# EAGLE library part LTC3569 (library PowerProducts)
LT-Spice library generated with : ltspice.ulp from: D:/Program Files (x86)/LTC/LTspiceIV/lib/sym/PowerProducts/LTC3588-1*.asy at 07.10.2012 18:20:25
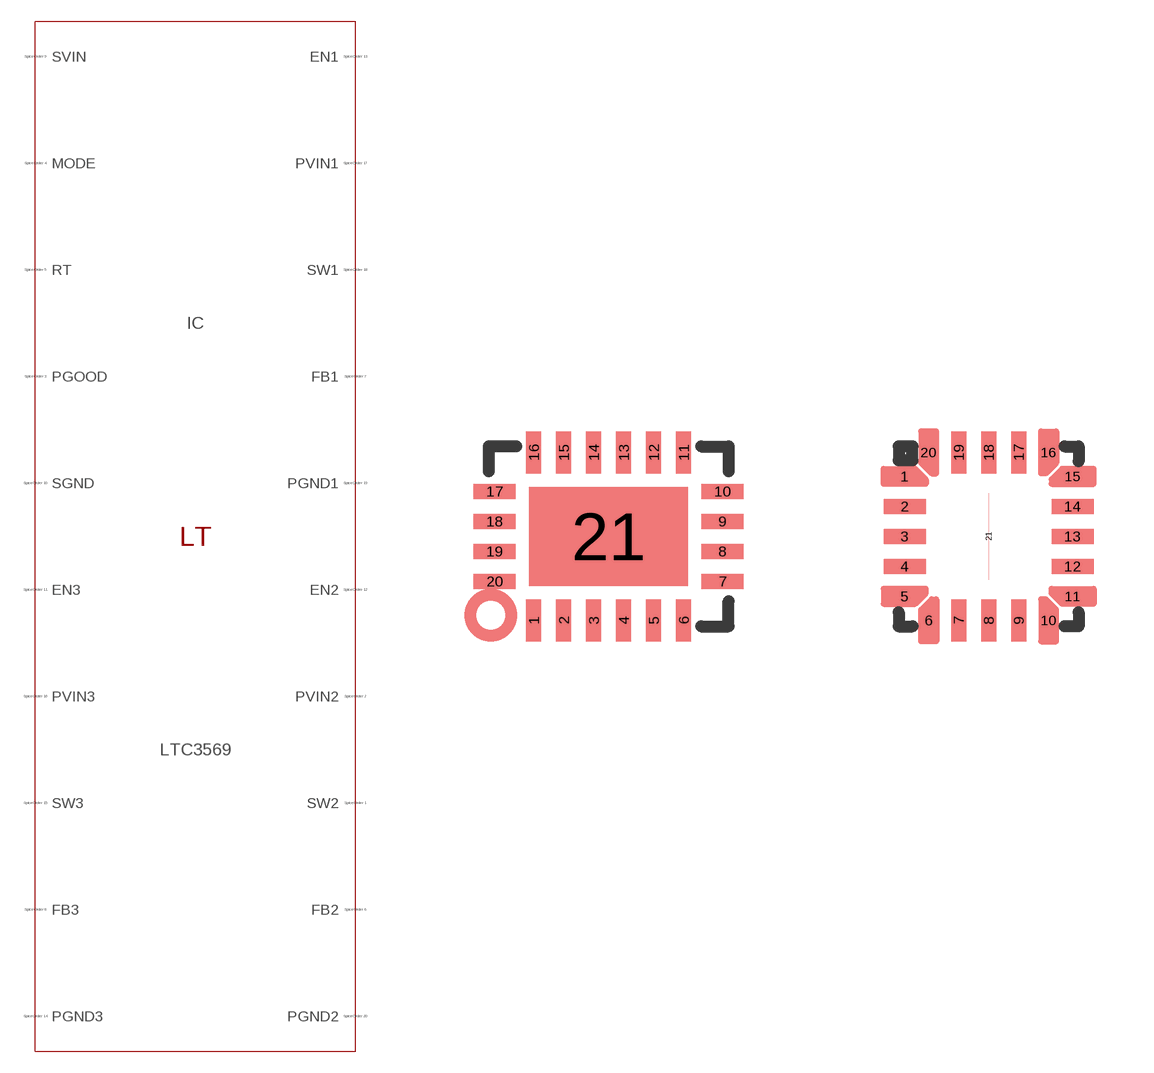
[diagram p254: symbol with the pads of QFN20(UDC); footprints QFN20(UDC), QFN20(UD)]

Designator prefix IC

## LTC3569UDC (SPICEMODEL: LTC3569.sub; SPICEPREFIX: X; VALUE2: LTC3569)  [QFN20(UDC)]
1  PGND2  pas
2  SW2  pas
3  PVIN2  pas
4  PGOOD  pas
5  MODE  pas
6  RT  pas
7  FB2  pas
8  FB1  pas
9  FB3  pas
10  SVIN  pas
11  SGND  pas
12  EN3  pas
13  EN2  pas
14  EN1  pas
15  PGND3  pas
16  SW3  pas
17  PVIN3  pas
18  PVIN1  pas
19  SW1  pas
20  PGND1  pas
21  SGND  pas

## LTC3569 (SPICEMODEL: LTC3569.sub; SPICEPREFIX: X; VALUE2: LTC3569)  [QFN20(UD)]
1  SW2  pas
2  PVIN2  pas
3  PGOOD  pas
4  MODE  pas
5  RT  pas
6  FB2  pas
7  FB1  pas
8  FB3  pas
9  SVIN  pas
10  SGND  pas
11  EN3  pas
12  EN2  pas
13  EN1  pas
14  PGND3  pas
15  SW3  pas
16  PVIN3  pas
17  PVIN1  pas
18  SW1  pas
19  PGND1  pas
20  PGND2  pas
21  SGND  pas

## Footprint QFN20(UDC) (pad centres in mm)
Package generated from: QFN20(UDC).asc (!PADS-POWERPCB-V9.3-BASIC! DESIGN DATABASE ASCII FILE 1.0) with :import-pads-powerpcb-v5.ulp Version 1.0.1 at 04.10.2012 14:11:23
smd 0.375 x 1.05: 1 -1.875,-2.1; 2 -1.125,-2.1; 3 -0.375,-2.1; 4 0.375,-2.1; 5 1.125,-2.1; 6 1.875,-2.1; 11 1.875,2.1; 12 1.125,2.1; 13 0.375,2.1; 14 -0.375,2.1; 15 -1.125,2.1; 16 -1.875,2.1
smd 1.05 x 0.375: 7 2.85,-1.125; 8 2.85,-0.375; 9 2.85,0.375; 10 2.85,1.125; 17 -2.85,1.125; 18 -2.85,0.375; 19 -2.85,-0.375; 20 -2.85,-1.125
smd 3.975 x 2.475: 21 0,0

## Footprint QFN20(UD) (pad centres in mm)
Package generated from: QFN20(UD).asc (!PADS-POWERPCB-V5.0-BASIC! DESIGN DATABASE ASCII FILE 1.0) with :import-pads-powerpcb-v5.ulp Version 1.0.1 at 04.10.2012 14:11:23
smd 0.375 x 0.375: 1 -2.1,1.5; 5 -2.1,-1.5; 6 -1.5,-2.1; 10 1.5,-2.1; 11 2.1,-1.5; 15 2.1,1.5; 16 1.5,2.1; 20 -1.5,2.1
smd 1.05 x 0.375: 2 -2.1,0.75; 3 -2.1,0; 4 -2.1,-0.75; 12 2.1,-0.75; 13 2.1,0; 14 2.1,0.75
smd 0.375 x 1.05: 7 -0.75,-2.1; 8 0,-2.1; 9 0.75,-2.1; 17 0.75,2.1; 18 0,2.1; 19 -0.75,2.1
smd 0 x 2.175: 21 0,0